# Altium schematic symbol library Nixie_Schlib.SchLib: 1 symbol
Pins are listed as number, name and electrical type; pins without a type are passive.

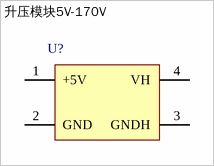
[diagram p0: symbol 升压模块5V-170V]

## 升压模块5V-170V
designator U?, comment Boost  (value not drawn)
5V-->170V
footprint BOOST-A (5V-170V升压模块)
pins: 1 +5V, 2 GND, 3 GNDH, 4 VH